# EAGLE library part AS-ITM-00124 (library tinycircuits)
CONN TERM BLK 9POS 2.54MM R/A BK
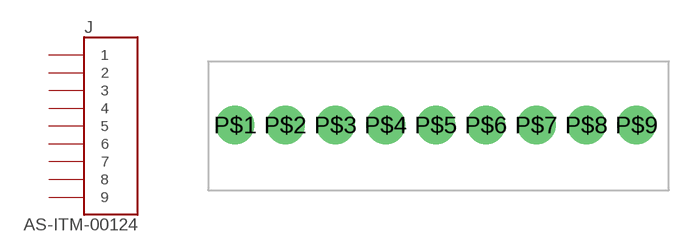
[diagram p51: symbol with the pads of 9POS_2.54MM_TERMBLOCK; footprint 9POS_2.54MM_TERMBLOCK]

Designator prefix J

## AS-ITM-00124 (PARTNO: AS-ITM-00124; VALUE: ESDM09100)  [9POS_2.54MM_TERMBLOCK]
P$1  1
P$2  2
P$3  3
P$4  4
P$5  5
P$6  6
P$7  7
P$8  8
P$9  9

## Footprint 9POS_2.54MM_TERMBLOCK (pad centres in mm)
drill 1.3: P$1 -10.16,0; P$2 -7.62,0; P$3 -5.08,0; P$4 -2.54,0; P$5 0,0; P$6 2.54,0; P$7 5.08,0; P$8 7.62,0; P$9 10.16,0